# Altium footprint library CustomLibrary.PcbLib: 25 footprints (part 1 of 2)
Each footprint in its own frame and in the unit in brackets; x right, y up, seen from the top. Pads: shape width x height; smd on the part's side, far side on the other; paste and mask are expansions set on the pad; w line width, h text height; cw(c..) or ccw(c..) is an arc to the next point about the centre after c.
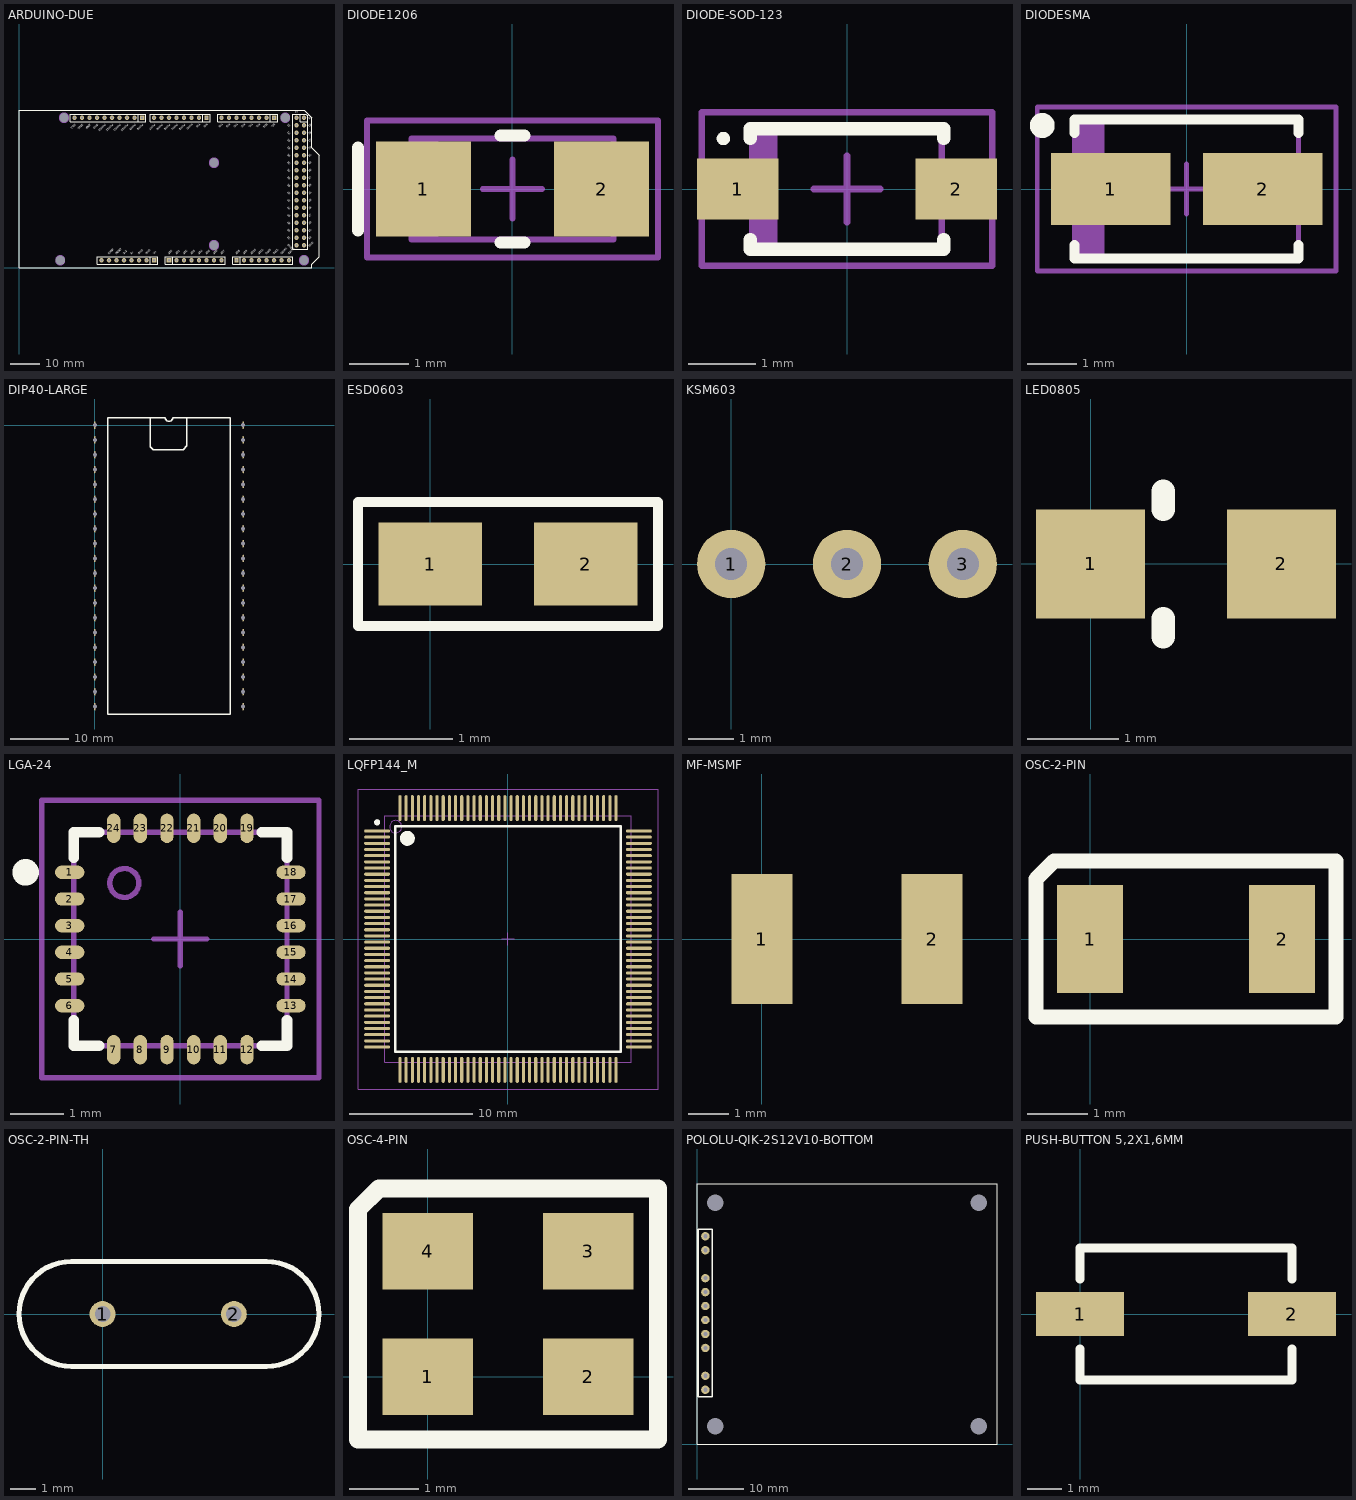
[diagram p0: the footprints below, top view; thin cyan lines are the x and y axes]

## ARDUINO-DUE [mil]
pads (92):
  round 62.99 hole 125.98: 0(550,100) 0(600,2000) 0(2600,300) 0(2600,1400) 0(3550,2000) 0(3800,100)
  rect 60x60 hole 30: 0(2500,2000) 8(1640,2000) 21(3400,2000) A0(2000,100) A8(2900,100) VIN(1800,100)
  round 60 hole 30: 1(2400,2000) 2(2300,2000) 3(2200,2000) 3V3(1400,100) 4(2100,2000) 5(2000,2000) 5V(1500,100) 5V(3700,2000) 5V(3800,2000) 6(1900,2000) 7(1800,2000) 9(1540,2000) 10(1440,2000) 11(1340,2000) 12(1240,2000) 13(1140,2000) 14(2700,2000) 15(2800,2000) 16(2900,2000) 17(3000,2000) 18(3100,2000) 19(3200,2000) 20(3300,2000) 22(3700,1900) 23(3800,1900) 24(3700,1800) 25(3800,1800) 26(3700,1700) 27(3800,1700) 28(3700,1600) 29(3800,1600) 30(3700,1500) 31(3800,1500) 32(3700,1400) 33(3800,1400) 34(3700,1300) 35(3800,1300) 36(3700,1200) 37(3800,1200) 38(3700,1100) 39(3800,1100) 40(3700,1000) 41(3800,1000) 42(3700,900) 43(3800,900) 44(3700,800) 45(3800,800) 46(3700,700) 47(3800,700) 48(3700,600) 49(3800,600) 50(3700,500) 51(3800,500) 52(3700,400) 53(3800,400) A1(2100,100) A2(2200,100) A3(2300,100) A4(2400,100) A5(2500,100) A6(2600,100) A7(2700,100) A9(3000,100) A10(3100,100) A11(3200,100) AREF(940,2000) CANRX(3500,100) CANTX(3600,100) DAC0(3300,100) DAC1(3400,100) GND1(1040,2000) GND2(1600,100) GND3(1700,100) GND4(3700,300) GND5(3800,300) IOREF(1200,100) RESET(1100,100) RESET(1300,100) SCL1(740,2000) SDA1(840,2000)
Top Overlay:
  lines w5: 0,0 0,2100 3800,2100 3900,2000 3900,1600 4000,1500 4000,150 3900,50 3900,0 0,0
  lines w10: 1590,1950 1590,2050 ; 2050,50 2050,150 ; 2450,1950 2450,2050 ; 2950,50 2950,150 ; 3350,1950 3350,2050 ; 3750,2050 3750,1950 3850,1950 ; 1750,50 1750,150 ; 1750,50 1040,50 1040,150 1750,150 ; 1750,50 1850,50 1850,100 1850,150 1750,150 ; 680,1950 1690,1950 1690,2050 680,2050 680,1950 ; 1750,1950 2550,1950 2550,2050 1750,2050 1750,1950 ; 1950,50 1950,150 2750,150 2750,50 1950,50 ; 2650,1950 3450,1950 3450,2050 2650,2050 2650,1950 ; 2850,50 2850,150 3650,150 3650,50 2850,50 ; 3650,250 3650,2050 3825,2050 3850,2025 3850,250 3650,250
  text "RESET" at 1300,175 h20
  text "3v3" at 1400,175 h20
  text "5v" at 1500,175 h20
  text "GND" at 1600,175 h20
  text "GND" at 1700,175 h20
  text "Vin" at 1800,175 h20
  text "AD0" at 2000,175 h20
  text "AD1" at 2100,175 h20
  text "AD2" at 2200,175 h20
  text "AD3" at 2300,175 h20
  text "AD4" at 2400,175 h20
  text "AD5" at 2500,175 h20
  text "AD6" at 2600,175 h20
  text "AD7" at 2700,175 h20
  text "AD8" at 2900,175 h20
  text "AD9" at 3000,175 h20
  text "AD10" at 3100,175 h20
  text "AD11" at 3200,175 h20
  text "DAC0" at 3300,175 h20
  text "DAC1" at 3400,175 h20
  text "CANRX" at 3500,175 h20
  text "CANTX" at 3600,175 h20
  text "RX0" at 2500,1925 h20
  text "SCL" at 3400,1925 h20
  text "22" at 3575,1900 h20
  text "24" at 3575,1800 h20
  text "26" at 3575,1700 h20
  text "28" at 3575,1600 h20
  text "30" at 3575,1500 h20
  text "32" at 3575,1400 h20
  text "34" at 3575,1300 h20
  text "36" at 3575,1200 h20
  text "38" at 3575,1100 h20
  text "40" at 3575,1000 h20
  text "42" at 3575,900 h20
  text "44" at 3575,800 h20
  text "46" at 3575,700 h20
  text "48" at 3575,600 h20
  text "52" at 3575,400 h20
  text "GND" at 3575,300 h20
  text "50" at 3575,500 h20
  text "5V" at 3875,1975 h20
  text "23" at 3875,1875 h20
  text "25" at 3875,1775 h20
  text "27" at 3875,1675 h20
  text "29" at 3875,1575 h20
  text "31" at 3875,1475 h20
  text "33" at 3875,1375 h20
  text "35" at 3875,1275 h20
  text "37" at 3875,1175 h20
  text "39" at 3875,1075 h20
  text "41" at 3875,975 h20
  text "43" at 3875,875 h20
  text "45" at 3875,775 h20
  text "47" at 3875,675 h20
  text "49" at 3875,575 h20
  text "51" at 3875,475 h20
  text "53" at 3875,375 h20
  text "GND" at 3875,275 h20
  text "SDA" at 3300,1925 h20
  text "RX1" at 3200,1925 h20
  text "TX1" at 3100,1925 h20
  text "RX2" at 3000,1925 h20
  text "TX2" at 2900,1925 h20
  text "RX3" at 2800,1925 h20
  text "TX3" at 2700,1925 h20
  text "TX0" at 2400,1925 h20
  text "PWM2" at 2300,1925 h20
  text "PWM3" at 2200,1917.93 h20
  text "PWM4" at 2100,1917.93 h20
  text "PWM5" at 2000,1917.93 h20
  text "PWM6" at 1900,1917.93 h20
  text "PWM7" at 1800,1917.93 h20
  text "PWM8" at 1640,1920 h20
  text "PWM9" at 1540,1920 h20
  text "PWM10" at 1440,1920 h20
  text "PWM11" at 1340,1920 h20
  text "PWM12" at 1240,1920 h20
  text "PWM13" at 1140,1920 h20
  text "GND" at 1040,1920 h20
  text "AREF" at 940,1920 h20
  text "IOREF" at 1200,175 h20
  text "SDA1" at 840,1920 h20
  text "SCL1" at 740,1920 h20
  text "5V" at 3684,2065 h20
Mechanical 1:
  circle w5: c3800,100 r62.99
  circle w5: c3550,2000 r62.99
  circle w5: c2600,1400 r62.99
  circle w5: c550,100 r62.99
  circle w5: c2600,300 r62.99
  circle w5: c600,2000 r62.99
3D body: height 440.6, standoff 15.4, extent -35.31,0 4000,2100

## DIODE1206 [mm] "Molded Diode, 2-Leads, Body 3,2x1,5mm, IPC Medium Density"
height 0.95
pads (2):
  rect 1.6x1.6 smd: 1(-1.5,0) 2(1.5,0)
Top Overlay:
  lines w0.2: -2.6,-0.7 -2.6,0.7 ; -0.2,-0.9 0.2,-0.9 ; -0.2,0.9 0.2,0.9
Mechanical 13:
  rectangle: -1.7,-0.85 -1.243,0.85
  lines w0.1: -1.7,-0.85 -1.7,0.85 1.7,0.85 1.7,-0.85 -1.7,-0.85
Mechanical 15:
  lines w0.1: -0.5,0 0.5,0 ; 0,-0.5 0,0.5 ; -2.45,-1.15 -2.45,1.15 2.45,1.15 2.45,-1.15 -2.45,-1.15
3D body: height 0.95, standoff 0, extent -1.7,-0.85 1.7,0.85

## DIODE-SOD-123 [mm] "Molded Diode, 2-Leads, Body 2,7x1,6mm, IPC Medium Density"
height 1.35
pads (2):
  rect 1.22x0.91 smd: 1(-1.635,0) 2(1.635,0)
Top Overlay:
  circle w0.1: c-1.85,0.755 r0.05
  lines w0.2: -1.45,-0.755 -1.45,-0.9 1.45,-0.9 1.45,-0.755 ; -1.45,0.755 -1.45,0.9 1.45,0.9 1.45,0.755
Mechanical 13:
  rectangle: -1.42,-0.9 -1.038,0.9
  lines w0.1: -1.42,-0.9 1.42,-0.9 1.42,0.9 -1.42,0.9 -1.42,-0.9
Mechanical 15:
  lines w0.1: -0.5,0 0.5,0 ; 0,-0.5 0,0.5 ; -2.175,-1.15 2.175,-1.15 2.175,1.15 -2.175,1.15 -2.175,-1.15
3D body: height 1.35, standoff 0, extent -1.42,-0.9 1.42,0.9

## DIODESMA [mm]
height 2.3
pads (2):
  rect 2.4x1.45 smd: 1(-1.525,0) 2(1.525,0)
Top Overlay:
  circle w0.25: c-2.9,1.275 r0.125
  lines w0.2: -2.25,-1.125 -2.25,-1.4 2.25,-1.4 2.25,-1.125 ; -2.25,1.125 -2.25,1.4 2.25,1.4 2.25,1.125
Mechanical 13:
  rectangle: -2.25,-1.395 -1.645,1.395
  lines w0.1: -2.25,-1.395 2.25,-1.395 2.25,1.395 -2.25,1.395 -2.25,-1.395
Mechanical 15:
  lines w0.1: -0.5,0 0.5,0 ; 0,-0.5 0,0.5 ; -3,-1.65 3,-1.65 3,1.65 -3,1.65 -3,-1.65
3D body: height 2.3, standoff 0, extent -2.25,-1.395 2.25,1.395

## DIP40-LARGE [mil]
pads (40):
  rect 10x50 hole 28: 1(0,0)
  oval 10x50 hole 28: 2(0,-100) 3(0,-200) 4(0,-300) 5(0,-400) 6(0,-500) 7(0,-600) 8(0,-700) 9(0,-800) 10(0,-900) 11(0,-1000) 12(0,-1100) 13(0,-1200) 14(0,-1300) 15(0,-1400) 16(0,-1500) 17(0,-1600) 18(0,-1700) 19(0,-1800) 20(0,-1900) 21(1000,-1900) 22(1000,-1800) 23(1000,-1700) 24(1000,-1600) 25(1000,-1500) 26(1000,-1400) 27(1000,-1300) 28(1000,-1200) 29(1000,-1100) 30(1000,-1000) 31(1000,-900) 32(1000,-800) 33(1000,-700) 34(1000,-600) 35(1000,-500) 36(1000,-400) 37(1000,-300) 38(1000,-200) 39(1000,-100) 40(1000,0)
Top Overlay:
  lines w10: 375,50 375,-145 395,-165 595,-165 620,-140 620,50 ; 85,-1950 85,-1450 85,-450 85,50 475,50 ccw(c500,50) 525,50 915,50 915,-1950 85,-1950
3D body: height 430, standoff 400, extent -65,-1950 1070,50
3D body: height 400, standoff 0, extent -65,-1945 85,50
3D body: height 400, standoff 0, extent 915,-1950 1070,50

## ESD0603 [mm] "ESD Protection diode"
height 0.8
pads (2):
  rect 1x0.8 smd: 1(0,0) 2(1.5,0)
Top Overlay:
  lines w0.1: -0.7,-0.6 -0.7,0.6 2.2,0.6 2.2,-0.6 -0.7,-0.6
3D body: height 0.45, standoff 0, extent -0.2,-0.5 1.8,0.5

## KSM603 [mm] "Infrared sensor 3 pin KSM603"
height 7
pads (3):
  round 1.5 hole 0.7: 1(0,0) 2(2.54,0) 3(5.08,0)
3D body: height 7.1, standoff -3, extent -0.81,-2.811 5.89,1.65

## LED0805 [mm]
pads (2):
  rect 1.2x1.2 smd: 1(0,0) 2(2.1,0)
Top Overlay:
  lines w0.254: 0.8,-0.8 0.8,-0.6 ; 0.8,0.6 0.8,0.8
3D body: height 0.8, standoff 0, extent 0,-0.7 2.1,0.7

## LGA-24 [mm] "QFN, 24-Leads, Body 4,0x4,0mm (max), Pitch 0,50mm, IPC Medium Density"
height 1.1
pads (24):
  oval 0.55x0.25 smd: 1(-2.075,1.25) 2(-2.075,0.75) 3(-2.075,0.25) 4(-2.075,-0.25) 5(-2.075,-0.75) 6(-2.075,-1.25) 13(2.075,-1.25) 14(2.075,-0.75) 15(2.075,-0.25) 16(2.075,0.25) 17(2.075,0.75) 18(2.075,1.25)
  oval 0.25x0.55 smd: 7(-1.25,-2.075) 8(-0.75,-2.075) 9(-0.25,-2.075) 10(0.25,-2.075) 11(0.75,-2.075) 12(1.25,-2.075) 19(1.25,2.075) 20(0.75,2.075) 21(0.25,2.075) 22(-0.25,2.075) 23(-0.75,2.075) 24(-1.25,2.075)
Top Overlay:
  circle w0.25: c-2.9,1.25 r0.125
  lines w0.2: -2,-1.525 -2,-2 -1.525,-2 ; -2,1.525 -2,2 -1.525,2 ; 1.525,-2 2,-2 2,-1.525 ; 1.525,2 2,2 2,1.525
Mechanical 13:
  circle w0.1: c-1.05,1.05 r0.271
  lines w0.1: -2,-2 -2,2 2,2 2,-2 -2,-2
Mechanical 15:
  lines w0.1: -0.5,0 0.5,0 ; 0,-0.5 0,0.5 ; -2.6,-2.6 -2.6,2.6 2.6,2.6 2.6,-2.6 -2.6,-2.6
3D body: height 1.1, standoff 0.01, extent -2,-2 2,2

## LQFP144_M [mm] "Thin QFP, 144-Leads, Body 20x20mm, Pitch 0.5mm, IPC Low Density"
height 1.6
pads (144):
  oval 2.1x0.254 smd: 1(-10.6,8.75) 2(-10.6,8.25) 3(-10.6,7.75) 4(-10.6,7.25) 5(-10.6,6.75) 6(-10.6,6.25) 7(-10.6,5.75) 8(-10.6,5.25) 9(-10.6,4.75) 10(-10.6,4.25) 11(-10.6,3.75) 12(-10.6,3.25) 13(-10.6,2.75) 14(-10.6,2.25) 15(-10.6,1.75) 16(-10.6,1.25) 17(-10.6,0.75) 18(-10.6,0.25) 19(-10.6,-0.25) 20(-10.6,-0.75) 21(-10.6,-1.25) 22(-10.6,-1.75) 23(-10.6,-2.25) 24(-10.6,-2.75) 25(-10.6,-3.25) 26(-10.6,-3.75) 27(-10.6,-4.25) 28(-10.6,-4.75) 29(-10.6,-5.25) 30(-10.6,-5.75) 31(-10.6,-6.25) 32(-10.6,-6.75) 33(-10.6,-7.25) 34(-10.6,-7.75) 35(-10.6,-8.25) 36(-10.6,-8.75) 73(10.6,-8.75) 74(10.6,-8.25) 75(10.6,-7.75) 76(10.6,-7.25) 77(10.6,-6.75) 78(10.6,-6.25) 79(10.6,-5.75) 80(10.6,-5.25) 81(10.6,-4.75) 82(10.6,-4.25) 83(10.6,-3.75) 84(10.6,-3.25) 85(10.6,-2.75) 86(10.6,-2.25) 87(10.6,-1.75) 88(10.6,-1.25) 89(10.6,-0.75) 90(10.6,-0.25) 91(10.6,0.25) 92(10.6,0.75) 93(10.6,1.25) 94(10.6,1.75) 95(10.6,2.25) 96(10.6,2.75) 97(10.6,3.25) 98(10.6,3.75) 99(10.6,4.25) 100(10.6,4.75) 101(10.6,5.25) 102(10.6,5.75) 103(10.6,6.25) 104(10.6,6.75) 105(10.6,7.25) 106(10.6,7.75) 107(10.6,8.25) 108(10.6,8.75)
  oval 0.254x2.1 smd: 37(-8.75,-10.6) 38(-8.25,-10.6) 39(-7.75,-10.6) 40(-7.25,-10.6) 41(-6.75,-10.6) 42(-6.25,-10.6) 43(-5.75,-10.6) 44(-5.25,-10.6) 45(-4.75,-10.6) 46(-4.25,-10.6) 47(-3.75,-10.6) 48(-3.25,-10.6) 49(-2.75,-10.6) 50(-2.25,-10.6) 51(-1.75,-10.6) 52(-1.25,-10.6) 53(-0.75,-10.6) 54(-0.25,-10.6) 55(0.25,-10.6) 56(0.75,-10.6) 57(1.25,-10.6) 58(1.75,-10.6) 59(2.25,-10.6) 60(2.75,-10.6) 61(3.25,-10.6) 62(3.75,-10.6) 63(4.25,-10.6) 64(4.75,-10.6) 65(5.25,-10.6) 66(5.75,-10.6) 67(6.25,-10.6) 68(6.75,-10.6) 69(7.25,-10.6) 70(7.75,-10.6) 71(8.25,-10.6) 72(8.75,-10.6) 109(8.75,10.6) 110(8.25,10.6) 111(7.75,10.6) 112(7.25,10.6) 113(6.75,10.6) 114(6.25,10.6) 115(5.75,10.6) 116(5.25,10.6) 117(4.75,10.6) 118(4.25,10.6) 119(3.75,10.6) 120(3.25,10.6) 121(2.75,10.6) 122(2.25,10.6) 123(1.75,10.6) 124(1.25,10.6) 125(0.75,10.6) 126(0.25,10.6) 127(-0.25,10.6) 128(-0.75,10.6) 129(-1.25,10.6) 130(-1.75,10.6) 131(-2.25,10.6) 132(-2.75,10.6) 133(-3.25,10.6) 134(-3.75,10.6) 135(-4.25,10.6) 136(-4.75,10.6) 137(-5.25,10.6) 138(-5.75,10.6) 139(-6.25,10.6) 140(-6.75,10.6) 141(-7.25,10.6) 142(-7.75,10.6) 143(-8.25,10.6) 144(-8.75,10.6)
Top Overlay:
  circle w0.25: c-10.6,9.45 r0.125
  circle w0.6: c-8.15,8.15 r0.3
  lines w0.2: -9.15,-9.15 -9.15,9.15 9.15,9.15 9.15,-9.15 -9.15,-9.15
Mechanical 13:
  circle w0.1: c-9.1,9.1 r0.5
  lines w0.1: -10,-10 -10,10 10,10 10,-10 -10,-10
Mechanical 15:
  lines w0.1: -0.5,0 0.5,0 ; 0,-0.5 0,0.5 ; -12.15,-12.15 -12.15,12.15 12.15,12.15 12.15,-12.15 -12.15,-12.15
3D body: height 1.6, standoff 0, extent -10,-10 10,10

## MF-MSMF [mm] "MF-MSMF Series - PTC Resettable Fuses"
height 0.7
pads (2):
  rect 1.5x3.2 smd: 1(0,0) 2(4.2,0)
3D body: height 0.8, standoff 0, extent 0,-1.6 4.2,1.6

## OSC-2-PIN [mm] "Package of a 2 pin SMD oscilator"
height 0.8
pads (2):
  rect 1.1x1.8 smd: 1(0,0) 2(3.2,0)
Top Overlay:
  lines w0.254: -0.9,-1.3 -0.9,1 -0.6,1.3 4.1,1.3 4.1,-1.3 -0.9,-1.3
3D body: height 1.2, standoff 0, extent -0.3,-0.9 3.5,0.9

## OSC-2-PIN-TH [mm] "Trough Hole two pin crystal oscilator"
height 3.5
pads (2):
  round 1 hole 0.6: 1(0,0) 2(5.08,0)
Top Overlay:
  lines w0.2: -1.2,-2.032 cw(c-1.2,0) -1.2,2.032 6.342,2.032 cw(c6.342,0) 6.342,-2.032 -1.2,-2.032
3D body: height 3.09, standoff -2.54, extent -2.794,-1.524 7.874,1.524

## OSC-4-PIN [mm] "Package of a 4 pin SMD oscilator"
height 1.2
pads (4):
  rect 1.3x1.1 smd: 1(0,0) 2(2.3,0) 3(2.3,1.8) 4(0,1.8)
Top Overlay:
  lines w0.254: -1,-0.9 3.3,-0.9 3.3,2.7 -0.7,2.7 -1,2.4 -1,-0.9
3D body: height 1.2, standoff 0, extent -1,-0.9 3.3,2.7

## POLOLU-QIK-2S12V10-BOTTOM [mil] "Pololu H Bridge"
pads (14):
  round 47.24 hole 118.11 unplated: 0(130,130) 0(130,1730) 0(2020,130) 0(2020,1730)
  round 60 hole 30: 5V(60,790) ERR(60,1190) GND1(60,1390) GND2(60,690) GND3(60,390) RST(60,1090) RX(60,890) SIN(60,490) TX(60,990) VIN(60,1490)
Top Overlay:
  lines w3.94: 0,0 0,1866.14 2149.61,1866.14 2149.61,0 0,0
  lines w10: 10,340 110,340 110,1540 10,1540 10,340
3D body: height -21.65, standoff -521.65, extent 0,0 2165.35,1870.08
3D body: height 437.01, standoff 0, extent 10,340 110,1540

## PUSH-BUTTON 5,2X1,6MM [mm]
pads (2):
  rect 2.54x1.27 smd: 1(0,0) 2(6.1,0)
Top Overlay:
  lines w0.254: 0,-1 0,-1.9 6.1,-1.9 6.1,-1 ; 0,1 0,1.9 6.1,1.9 6.1,1
3D body: height 0.2, standoff 0, extent -0.3,-0.4 6.5,0.5
3D body: height 1.85, standoff 0, extent 0.2,-1.7 5.9,1.7
3D body: height 2.5, standoff 0, extent 1.4,-0.8 4.7,0.8